# EAGLE library part SAMG55J19-MU (library AloyseTech-IC)
Atmel/Microchip SAMG55J19B-MU The SAMG55J19B-MU is a ARM Cortex-M4F microcontroller with integrated FPU. Max frequency : 120MHz Flash : 512kB RAM : 160kB + 16kB(TCM/Cache) Supply : 1.62 - 3.6V USB Full Speed
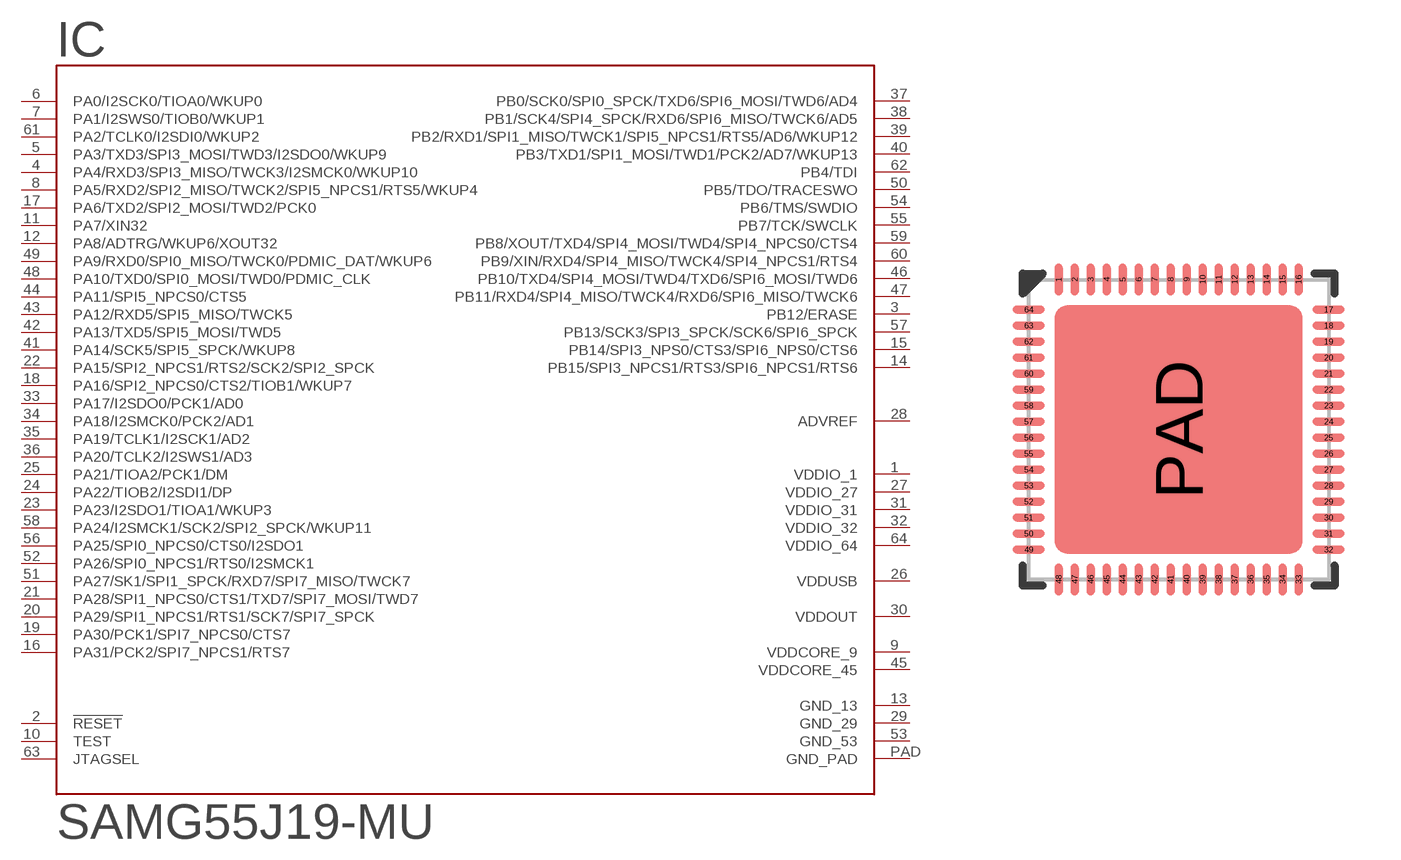
[diagram p0: symbol with the pads of QFN40P750X750X85-64_QFN64; footprint QFN40P750X750X85-64_QFN64]

Designator prefix IC

## SAMG55J19-MU-QFN64  [QFN40P750X750X85-64_QFN64]
1  VDDIO_1  pwr
2  !RESET  in
3  PB12/ERASE
4  PA4/RXD3/SPI3_MISO/TWCK3/I2SMCK0/WKUP10
5  PA3/TXD3/SPI3_MOSI/TWD3/I2SDO0/WKUP9
6  PA0/I2SCK0/TIOA0/WKUP0
7  PA1/I2SWS0/TIOB0/WKUP1
8  PA5/RXD2/SPI2_MISO/TWCK2/SPI5_NPCS1/RTS5/WKUP4
9  VDDCORE_9  pwr
10  TEST  in
11  PA7/XIN32
12  PA8/ADTRG/WKUP6/XOUT32
13  GND_13  pwr
14  PB15/SPI3_NPCS1/RTS3/SPI6_NPCS1/RTS6
15  PB14/SPI3_NPS0/CTS3/SPI6_NPS0/CTS6
16  PA31/PCK2/SPI7_NPCS1/RTS7
17  PA6/TXD2/SPI2_MOSI/TWD2/PCK0
18  PA16/SPI2_NPCS0/CTS2/TIOB1/WKUP7
19  PA30/PCK1/SPI7_NPCS0/CTS7
20  PA29/SPI1_NPCS1/RTS1/SCK7/SPI7_SPCK
21  PA28/SPI1_NPCS0/CTS1/TXD7/SPI7_MOSI/TWD7
22  PA15/SPI2_NPCS1/RTS2/SCK2/SPI2_SPCK
23  PA23/I2SDO1/TIOA1/WKUP3
24  PA22/TIOB2/I2SDI1/DP
25  PA21/TIOA2/PCK1/DM
26  VDDUSB  pwr
27  VDDIO_27  pwr
28  ADVREF  pwr
29  GND_29  pwr
30  VDDOUT  pwr
31  VDDIO_31  pwr
32  VDDIO_32  pwr
33  PA17/I2SDO0/PCK1/AD0
34  PA18/I2SMCK0/PCK2/AD1
35  PA19/TCLK1/I2SCK1/AD2
36  PA20/TCLK2/I2SWS1/AD3
37  PB0/SCK0/SPI0_SPCK/TXD6/SPI6_MOSI/TWD6/AD4
38  PB1/SCK4/SPI4_SPCK/RXD6/SPI6_MISO/TWCK6/AD5
39  PB2/RXD1/SPI1_MISO/TWCK1/SPI5_NPCS1/RTS5/AD6/WKUP12
40  PB3/TXD1/SPI1_MOSI/TWD1/PCK2/AD7/WKUP13
41  PA14/SCK5/SPI5_SPCK/WKUP8
42  PA13/TXD5/SPI5_MOSI/TWD5
43  PA12/RXD5/SPI5_MISO/TWCK5
44  PA11/SPI5_NPCS0/CTS5
45  VDDCORE_45  pwr
46  PB10/TXD4/SPI4_MOSI/TWD4/TXD6/SPI6_MOSI/TWD6
47  PB11/RXD4/SPI4_MISO/TWCK4/RXD6/SPI6_MISO/TWCK6
48  PA10/TXD0/SPI0_MOSI/TWD0/PDMIC_CLK
49  PA9/RXD0/SPI0_MISO/TWCK0/PDMIC_DAT/WKUP6
50  PB5/TDO/TRACESWO
51  PA27/SK1/SPI1_SPCK/RXD7/SPI7_MISO/TWCK7
52  PA26/SPI0_NPCS1/RTS0/I2SMCK1
53  GND_53  pwr
54  PB6/TMS/SWDIO
55  PB7/TCK/SWCLK
56  PA25/SPI0_NPCS0/CTS0/I2SDO1
57  PB13/SCK3/SPI3_SPCK/SCK6/SPI6_SPCK
58  PA24/I2SMCK1/SCK2/SPI2_SPCK/WKUP11
59  PB8/XOUT/TXD4/SPI4_MOSI/TWD4/SPI4_NPCS0/CTS4
60  PB9/XIN/RXD4/SPI4_MISO/TWCK4/SPI4_NPCS1/RTS4
61  PA2/TCLK0/I2SDI0/WKUP2
62  PB4/TDI
63  JTAGSEL  in
64  VDDIO_64  pwr
PAD  GND_PAD  pwr

## Footprint QFN40P750X750X85-64_QFN64 (pad centres in mm)
QFN64 - 7.5x7.5mm - 0.4mm pitch
smd 0.2 x 0.8: 1 -3,3.75; 2 -2.6,3.75; 3 -2.2,3.75; 4 -1.8,3.75; 5 -1.4,3.75; 6 -1,3.75; 7 -0.6,3.75; 8 -0.2,3.75; 9 0.2,3.75; 10 0.6,3.75; 11 1,3.75; 12 1.4,3.75; 13 1.8,3.75; 14 2.2,3.75; 15 2.6,3.75; 16 3,3.75; 33 3,-3.75; 34 2.6,-3.75; 35 2.2,-3.75; 36 1.8,-3.75; 37 1.4,-3.75; 38 1,-3.75; 39 0.6,-3.75; 40 0.2,-3.75; 41 -0.2,-3.75; 42 -0.6,-3.75; 43 -1,-3.75; 44 -1.4,-3.75; 45 -1.8,-3.75; 46 -2.2,-3.75; 47 -2.6,-3.75; 48 -3,-3.75
smd 0.8 x 0.2: 17 3.75,3; 18 3.75,2.6; 19 3.75,2.2; 20 3.75,1.8; 21 3.75,1.4; 22 3.75,1; 23 3.75,0.6; 24 3.75,0.2; 25 3.75,-0.2; 26 3.75,-0.6; 27 3.75,-1; 28 3.75,-1.4; 29 3.75,-1.8; 30 3.75,-2.2; 31 3.75,-2.6; 32 3.75,-3; 49 -3.75,-3; 50 -3.75,-2.6; 51 -3.75,-2.2; 52 -3.75,-1.8; 53 -3.75,-1.4; 54 -3.75,-1; 55 -3.75,-0.6; 56 -3.75,-0.2; 57 -3.75,0.2; 58 -3.75,0.6; 59 -3.75,1; 60 -3.75,1.4; 61 -3.75,1.8; 62 -3.75,2.2; 63 -3.75,2.6; 64 -3.75,3
smd 6.2 x 6.2: PAD 0,0